# Altium footprint library BMS_Devices.PcbLib: 136 footprints (part 5 of 9)
Each footprint in its own frame and in the unit in brackets; x right, y up, seen from the top. Pads: shape width x height; smd on the part's side, far side on the other; paste and mask are expansions set on the pad; w line width, h text height; cw(c..) or ccw(c..) is an arc to the next point about the centre after c.
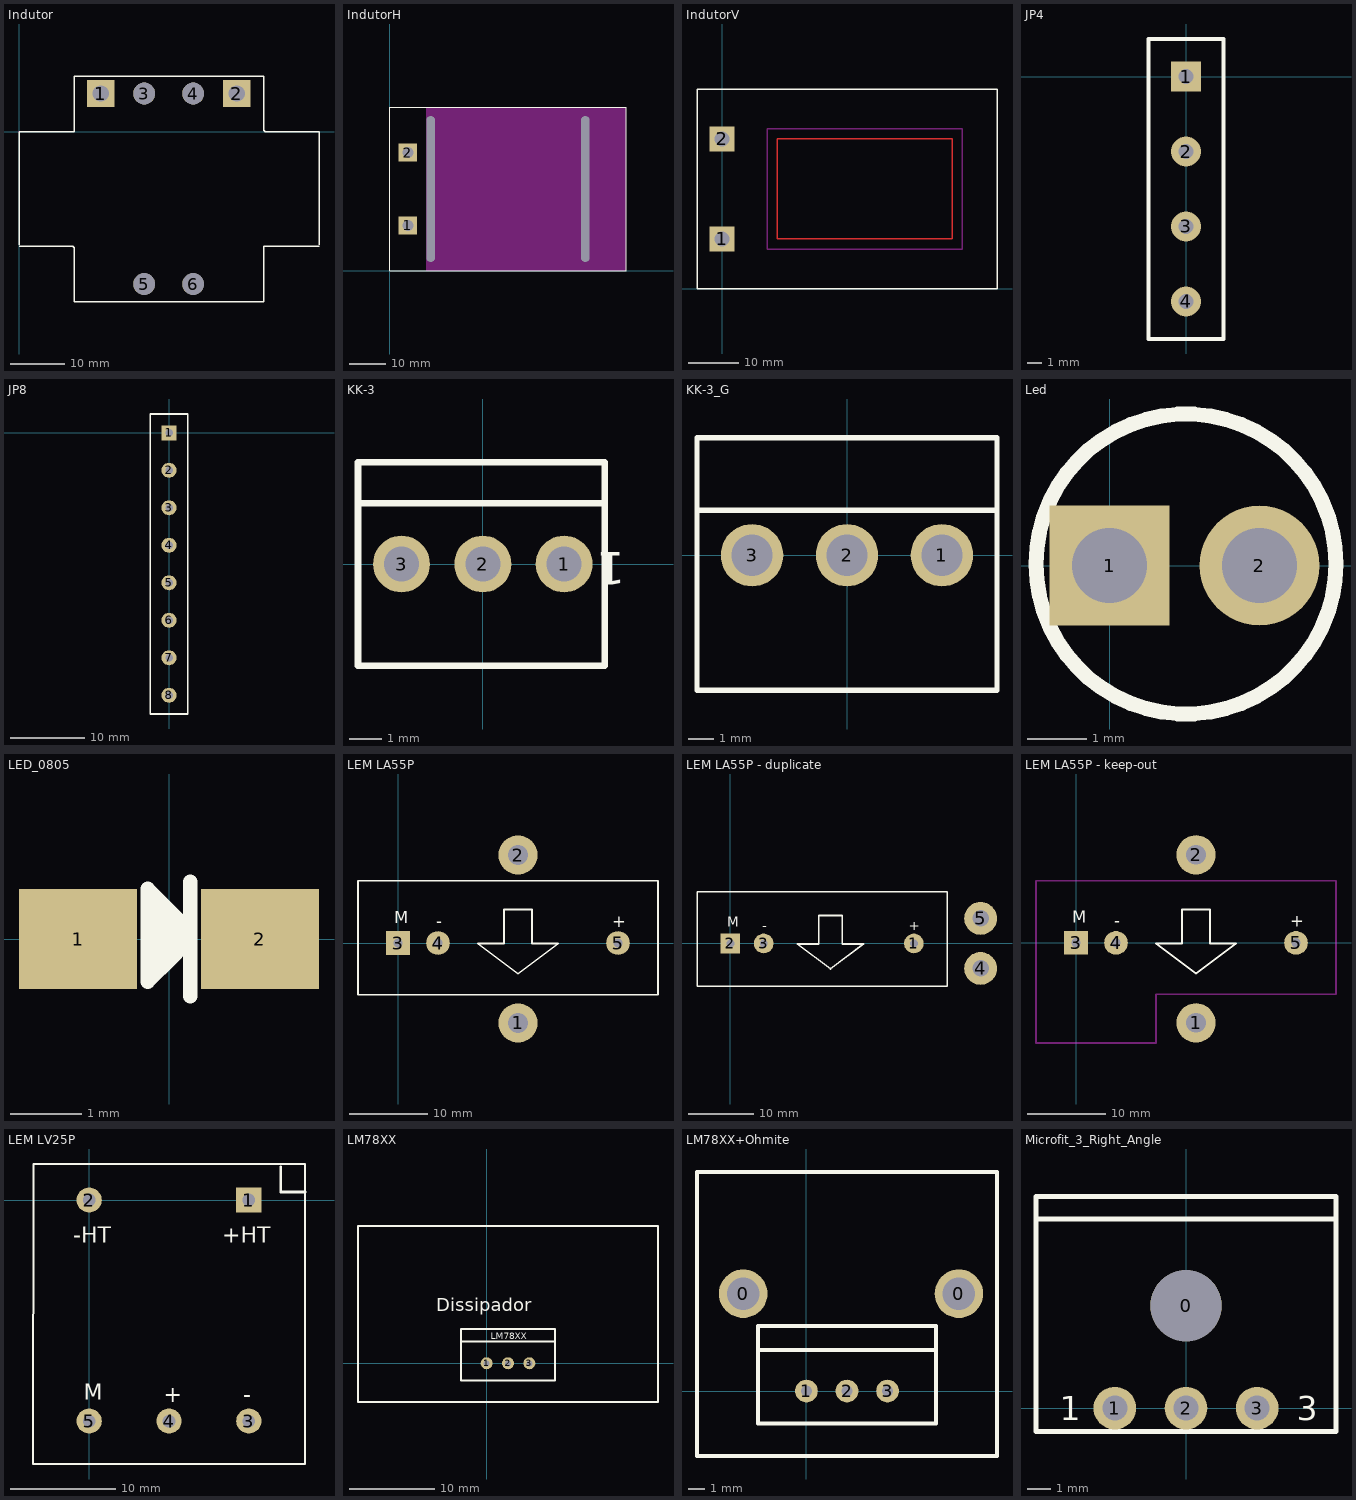
[diagram p4: the footprints below, top view; thin cyan lines are the x and y axes]

## Indutor [mm]
pads (6):
  rect 5x5 hole 3: 1(15,7) 2(40,7)
  round 4 hole 4: 3(23,7) 4(32,7) 5(23,-28) 6(32,-28)
Top Overlay:
  lines w0.254: 0,-21.082 9.906,-21.082 10.16,-21.336 10.16,-31.242 44.958,-31.242 44.958,-21.082 55.118,-21.082 ; 0,-20.828 0,0 10.16,0 10.16,10.16 44.958,10.16 44.958,0.254 45.212,0 55.118,0 55.118,-20.828
Bottom Overlay:
  lines w0.254: 0,-20.828 10.16,-20.828 ; 0,-20.828 10.16,-20.828 ; 0,-20.828 10.16,-20.828 ; 10.16,-30.988 10.16,-20.828 ; 10.16,-30.988 44.958,-30.988 ; 10.16,-30.988 10.16,-20.828 ; 10.16,-30.988 44.958,-30.988 ; 10.16,-30.988 10.16,-20.828 ; 10.16,-30.988 44.958,-30.988 ; 44.958,-30.988 44.958,-21.082 ; 44.958,-30.988 44.958,-21.082 ; 44.958,-30.988 44.958,-21.082 ; 45.212,-20.828 55.118,-20.828 ; 45.212,-20.828 55.118,-20.828 ; 45.212,-20.828 55.118,-20.828

## IndutorH [mm]
pads (4):
  round 1.524 hole 2.25 slot 40 at 90 deg: 0(11.3,22.5) 0(53.8,22.5)
  rect 5x5 hole 3: 1(5,12.5) 2(5,32.5)
Top Overlay:
  lines w0.254: 0,0 0,45 65,45 65,0 0,0
Keep-Out Layer:
  rectangle: 10,0 65.024,45

## IndutorV [mm]
pads (2):
  rect 5x5 hole 3: 1(0,10) 2(0,30)
Top Layer:
  lines w0.254: 11,10 11,30 46,30 46,10 11,10
Top Overlay:
  lines w0.254: -5,0 -5,40 55,40 55,0 -5,0
Keep-Out Layer:
  lines w0.254: 9,8 9,32 48,32 48,8 9,8

## JP4 [mil]
pads (4):
  rect 80x80 hole 40: 1(0,0)
  round 80 hole 40: 2(0,-200) 3(0,-400) 4(0,-600)
Top Overlay:
  lines w10: -100,-700 -100,100 100,100 100,-700 -100,-700

## JP8 [mil]
pads (8):
  rect 80x80 hole 40: 1(0,0)
  round 80 hole 40: 2(0,-200) 3(0,-400) 4(0,-600) 5(0,-800) 6(0,-1000) 7(0,-1200) 8(0,-1400)
Top Overlay:
  lines w10: -100,-1500 100,-1500 100,100 -100,100 -100,-1500

## KK-3 [mil]
pads (3):
  round 70 hole 43: 1(100,0) 2(0,0) 3(-100,0)
Top Overlay:
  lines w8: -153.54,75 150,75 ; -153.54,-125 -153.54,0 -153.54,125 150,125 150,-125 -153.54,-125
  text "1" at 175.51,14.65 h40

## KK-3_G [mm]
pads (3):
  round 2.5 hole 1.65: 1(3.8,0) 2(0,0) 3(-3.8,0)
Top Overlay:
  circle w0.254: c-3.8,0 r0.6
  circle w0.254: c3.8,0 r0.6
  circle w0.254: c0,0 r0.6
  lines w0.203: -6,1.8 6,1.8 ; -6,-5.4 -6,4.7 6,4.7 6,-5.4 -6,-5.4
  text "1" at 4.458,0.372 h1.02
3D body: height 12.5, standoff 0, extent -5.999,1.801 5.999,4.699
3D body: height 3.2, standoff 0, extent -5.999,-5.399 5.999,1.799
3D body: height 14, standoff 0, extent 3.201,-0.599 4.399,0.599
3D body: height 14, standoff 0, extent -0.599,-0.599 0.599,0.599
3D body: height 14, standoff 0, extent -4.399,-0.599 -3.201,0.599

## Led [mil]
pads (2):
  rect 80x80 hole 50: 1(0,0)
  round 80 hole 50: 2(100,0)
Top Overlay:
  circle w10: c51,1 r100
3D body: height 236.22, standoff 0, extent -48.98,-98.98 150.98,100.98

## LED_0805 [mil]
pads (2):
  rect 65x55 smd: 1(-50,0) 2(50,0)
Top Overlay:
  lines w8: -4.55,-3.94 -3.94,-3.94 3.94,3.94 ; 11.81,-31.5 11.81,31.5 ; 11.81,0 -11.81,-23.62 ; -11.81,-23.62 -11.81,-19.68 11.81,3.94 ; -11.81,-23.62 -11.81,27.56 ; -11.81,27.56 -4.55,20.29 -4.55,-16.36 3.94,-7.87 3.94,3.94 ; -11.81,27.56 -11.81,19.68 3.94,3.94 ; -11.81,27.56 11.81,3.94 ; 3.94,3.94 11.81,3.94

## LEM LA55P [mm]
pads (5):
  round 5 hole 2.5: 1(15.24,-10.16) 2(15.24,11.176)
  rect 3x3 hole 1.2: 3(0,0)
  round 3 hole 1.2: 4(5.08,0) 5(27.94,0)
Top Overlay:
  lines w0.2: -5.08,-6.55 -5.08,7.9 33.02,7.9 33.02,-6.55 -5.08,-6.55
  lines w0.254: 10.16,-0.076 13.462,-0.076 13.462,4.242 17.018,4.242 17.018,-0.076 20.32,-0.076 15.24,-3.886 10.16,-0.076
  text "+" at 27.178,2.032 h1.52
  text "M" at -0.508,2.54 h1.52
  text "-" at 4.826,2.032 h1.52

## LEM LA55P - duplicate [mm]
pads (5):
  round 3 hole 1.2: 1(27.94,0) 3(5.08,0)
  rect 3x3 hole 1.2: 2(0,0)
  round 5 hole 2.5: 4(38.1,-3.81) 5(38.1,3.81)
Top Overlay:
  lines w0.2: -5.08,-6.55 33.02,-6.55 33.02,7.9 -5.08,7.9 -5.08,-6.55
  lines w0.254: 10.16,-0.076 15.24,-3.886 20.32,-0.076 17.018,-0.076 17.018,4.242 13.462,4.242 13.462,-0.076 10.16,-0.076
  text "-" at 4.826,2.032 h1.52
  text "M" at -0.508,2.54 h1.52
  text "+" at 27.178,2.032 h1.52

## LEM LA55P - keep-out [mm]
pads (5):
  round 5 hole 2.5: 1(15.24,-10.16) 2(15.24,11.176)
  rect 3x3 hole 1.2: 3(0,0)
  round 3 hole 1.2: 4(5.08,0) 5(27.94,0)
Top Overlay:
  lines w0.254: 10.16,-0.076 15.24,-3.886 20.32,-0.076 17.018,-0.076 17.018,4.242 13.462,4.242 13.462,-0.076 10.16,-0.076
  text "-" at 4.826,2.032 h1.52
  text "M" at -0.508,2.54 h1.52
  text "+" at 27.178,2.032 h1.52
Keep-Out Layer:
  lines w0.2: -5.08,-6.55 -5.08,7.9 33.02,7.9 33.02,-6.55 10.16,-6.55
  lines w0.254: -5.08,-6.604 -5.08,-12.7 10.16,-12.7 10.16,-6.604

## LEM LV25P [mm]
pads (5):
  rect 2.4x2.4 hole 1.2: 1(15.24,0)
  round 2.4 hole 1.2: 2(0,0) 3(15.24,-21.1) 4(7.62,-21.1) 5(0,-21.1)
Top Overlay:
  lines w0.2: -5.38,-25.2 -5.334,3.44 20.62,3.44 20.62,-25.2 -5.38,-25.2
  lines w0.254: 18.288,3.186 18.288,0.762 20.62,0.762
  text "-HT" at -1.524,-4.064 h1.52
  text "+HT" at 12.7,-4.064 h1.52
  text "-" at 14.732,-19.304 h1.52
  text "+" at 7.112,-19.304 h1.52
  text "M" at -0.508,-19.05 h1.52

## LM78XX [mm]
pads (3):
  round 1.4 hole 0.7: 1(0,0) 2(2.5,0) 3(5,0)
Top Overlay:
  lines w0.254: -3,2.54 8,2.54 ; -15,-4.5 -15,16 20,16 20,-4.5 -15,-4.5 ; -3,-2 8,-2 8,4 -3,4 -3,-2
  text "LM78XX" at 0.508,2.794 h0.75
  text "Dissipador" at -5.842,6.096 h1.52

## LM78XX+Ohmite [mm] "Voltage regulator 78xx with ohmite heatsink"
pads (5):
  round 3 hole 2: 0(-3.9,6) 0(9.4,6)
  round 1.4 hole 0.7: 1(0,0) 2(2.5,0) 3(5,0)
Top Overlay:
  lines w0.254: -3,2.54 8,2.54 ; -6.75,-4 -6.75,13.5 11.75,13.5 11.75,-4 -6.75,-4 ; -3,-2 -3,4 8,4 8,-2 -3,-2
3D body: height 30, standoff 0, extent -6.877,-4.127 11.877,13.627

## Microfit_3_Right_Angle [mm]
pads (4):
  round 3 hole 3: 0(0,4.32)
  round 1.8 hole 1.05: 1(-3,0) 2(0,0) 3(3,0)
Top Overlay:
  lines w0.203: -6.325,7.97 6.325,7.97 ; -6.325,-0.98 6.325,-0.98 6.325,8.92 -6.325,8.92 -6.325,-0.98
  text "1" at -5.325,-0.5 h1.02
  text "3" at 4.675,-0.5 h1.02
3D body: height 5, standoff 0, extent -6.427,-1.082 6.427,9.022